# EAGLE library part PN7762S (library misc)
Dual channel 5A mosfet driver
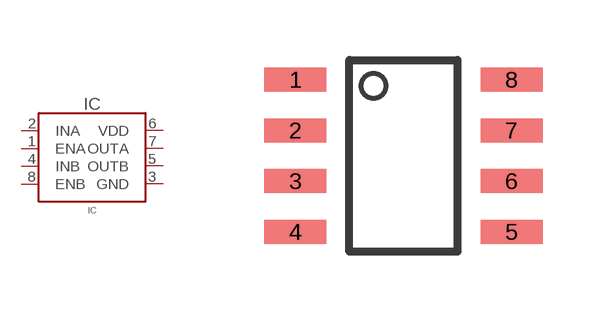
[diagram p19: symbol with the pads of SOIC8; footprint SOIC8]

Designator prefix IC

## PN7762S (MANF: Chipown; MANF#: PN7762S)  [SOIC8]
1  ENA  in
2  INA  in
3  GND  pas
4  INB  in
5  OUTB  out
6  VDD  pas
7  OUTA  out
8  ENB  in

## Footprint SOIC8 (pad centres in mm)
https://www.ti.com/lit/ds/snvsaq5a/snvsaq5a.pdf?ts=1602424164509
smd 1.55 x 0.6: 1 -2.7,1.905; 2 -2.7,0.635; 3 -2.7,-0.635; 4 -2.7,-1.905; 5 2.7,-1.905; 6 2.7,-0.635; 7 2.7,0.635; 8 2.7,1.905